# Altium schematic symbol library T5000.SchLib: 1 symbol
Pins are listed as number, name and electrical type; pins without a type are passive.

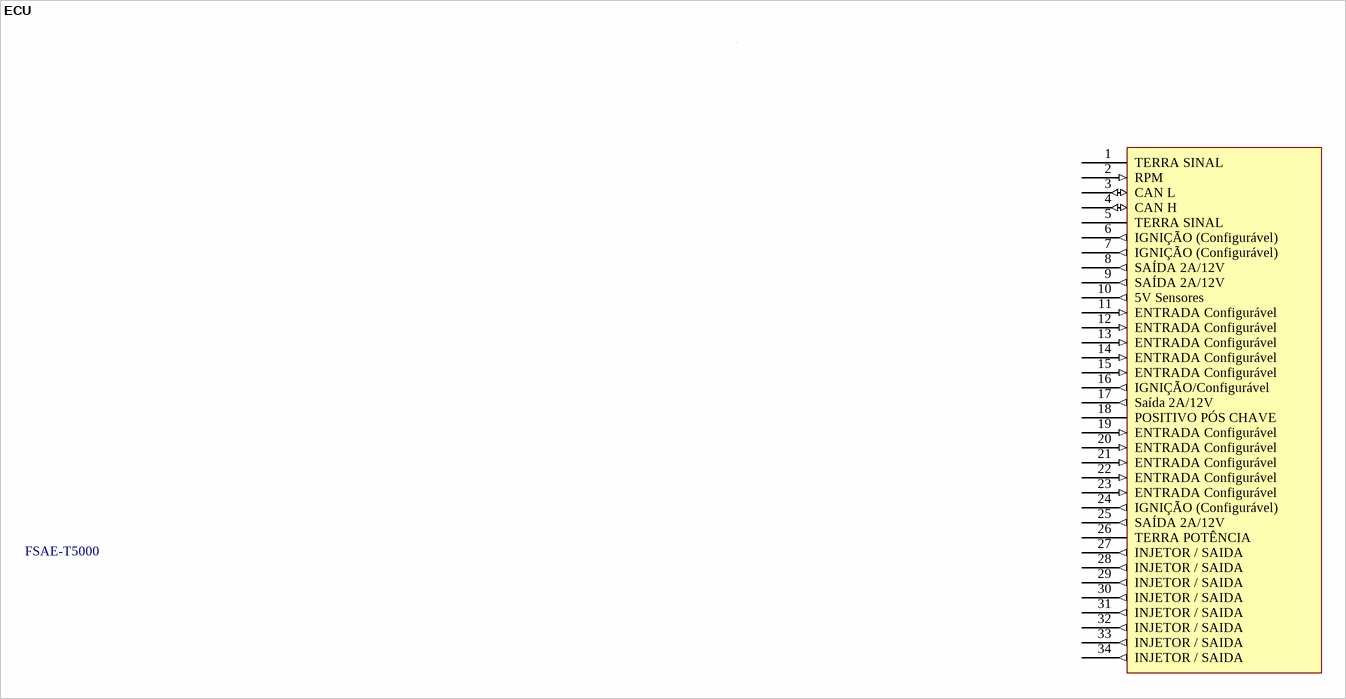
[diagram p0: symbol ECU]

## ECU
designator ?, comment FSAE-T5000
pins: 1 TERRA SINAL (oc), 2 RPM (in), 3 CAN L (io), 4 CAN H (io), 5 TERRA SINAL (oc), 6 IGNIÇÃO (Configurável) (out), 7 IGNIÇÃO (Configurável) (out), 8 SAÍDA 2A/12V (out), 9 SAÍDA 2A/12V (out), 10 5V Sensores (out), 11 ENTRADA Configurável (in), 12 ENTRADA Configurável (in), 13 ENTRADA Configurável (in), 14 ENTRADA Configurável (in), 15 ENTRADA Configurável (in), 16 IGNIÇÃO/Configurável (out), 17 Saída 2A/12V (out), 18 POSITIVO PÓS CHAVE (oe), 19 ENTRADA Configurável (in), 20 ENTRADA Configurável (in), 21 ENTRADA Configurável (in), 22 ENTRADA Configurável (in), 23 ENTRADA Configurável (in), 24 IGNIÇÃO (Configurável) (out), 25 SAÍDA 2A/12V (out), 26 TERRA POTÊNCIA (oc), 27 INJETOR / SAIDA (out), 28 INJETOR / SAIDA (out), 29 INJETOR / SAIDA (out), 30 INJETOR / SAIDA (out), 31 INJETOR / SAIDA (out), 32 INJETOR / SAIDA (out), 33 INJETOR / SAIDA (out), 34 INJETOR / SAIDA (out)